# Altium schematic symbol library AYF531635.SCHLIB: 1 symbol
Pins are listed as number, name and electrical type; pins without a type are passive.

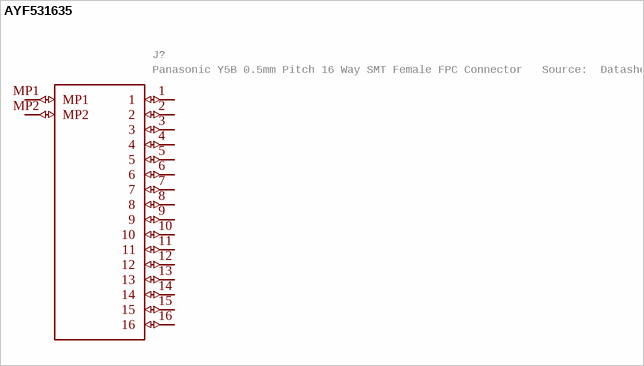
[diagram p0: symbol AYF531635]

## AYF531635
designator J?, comment Panasonic Y5B 0.5mm Pitch 16 Way SMT Female FPC Connector   Source:  Datasheet
GateName_1: G$1; SymbolName_1: AYF531635; LibraryName: AYF531635; DeviceSetName: AYF531635; Package: AYF531635; Mouser_Part_Number: 769-AYF531635; Mouser_Price-Stock: https://www.mouser.com/Search/Refine.aspx?Keyword=769-AYF531635; Manufacturer_Name: Panasonic; Manufacturer_Part_Number: AYF531635; Height: 2.06mm
footprint AYF531635
pins: 1 (io), 2 (io), 3 (io), 4 (io), 5 (io), 6 (io), 7 (io), 8 (io), 9 (io), 10 (io), 11 (io), 12 (io), 13 (io), 14 (io), 15 (io), 16 (io), MP1 (io), MP2 (io)